# Altium schematic symbol library SwitchPower.SchLib: 4 symbols
Pins are listed as number, name and electrical type; pins without a type are passive.

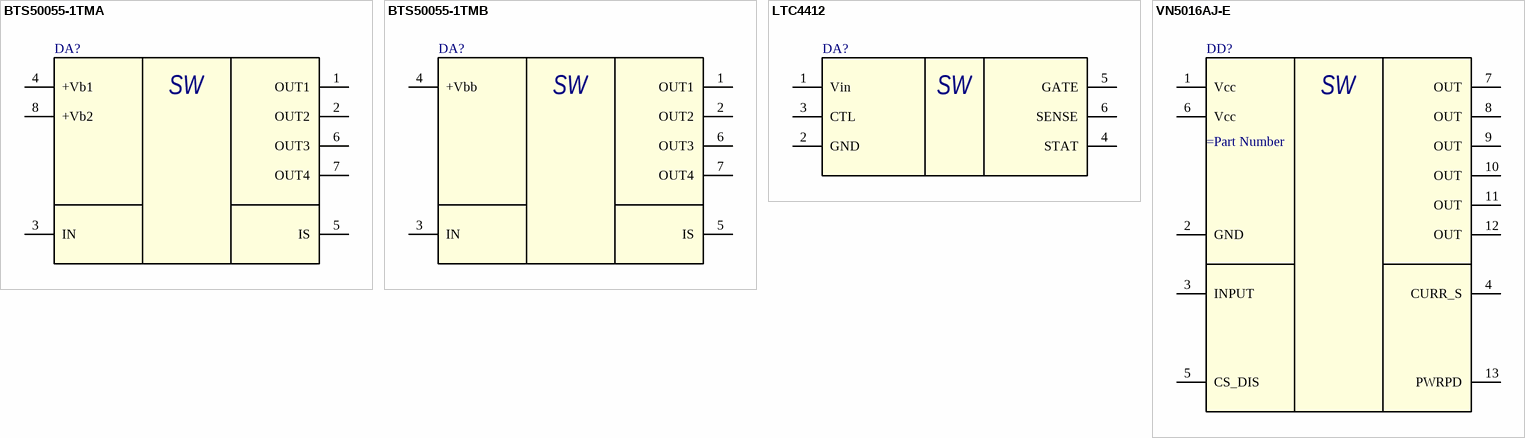
[diagram p0: symbols BTS50055-1TMA to VN5016AJ-E]

## BTS50055-1TMA
designator DA?
Smart Highside High Current Power Switch
pins: 1 OUT1 (power), 2 OUT2 (power), 3 IN (power), 4 +Vb1 (power), 5 IS (power), 6 OUT3 (power), 7 OUT4 (power), 8 +Vb2 (power)
text: SW

## BTS50055-1TMB
designator DA?
Smart Highside High Current Power Switch
pins: 1 OUT1 (power), 2 OUT2 (power), 3 IN (power), 4 +Vbb (power), 5 IS (power), 6 OUT3 (power), 7 OUT4 (power)
text: SW

## LTC4412
designator DA?
Low Loss PowerPath Controller
pins: 1 Vin (power), 2 GND (power), 3 CTL (power), 4 STAT (power), 5 GATE (power), 6 SENSE (power)
text: SW

## VN5016AJ-E
designator DD?
Single channel high side driver with analog / current sense for automotive applications
pins: 1 Vcc (power), 2 GND (power), 3 INPUT (power), 4 CURR_S (power), 5 CS_DIS (power), 6 Vcc (power), 7 OUT (power), 8 OUT (power), 9 OUT (power), 10 OUT (power), 11 OUT (power), 12 OUT (power), 13 PWRPD (power)
text: SW